# Altium schematic symbol library LM317EMPX.Schlib: 1 symbol
Pins are listed as number, name and electrical type; pins without a type are passive.

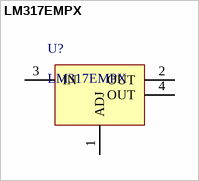
[diagram p0: symbol LM317EMPX]

## LM317EMPX
designator U?
Linear Voltage Regulator IC  1 Output  1A SOT-223-4
pins: 1 ADJ, 2 OUT, 3 IN, 4 OUT